# Altium footprint library Titan.PcbLib: 49 footprints (part 3 of 4)
Each footprint in its own frame and in the unit in brackets; x right, y up, seen from the top. Pads: shape width x height; smd on the part's side, far side on the other; paste and mask are expansions set on the pad; w line width, h text height; cw(c..) or ccw(c..) is an arc to the next point about the centre after c.
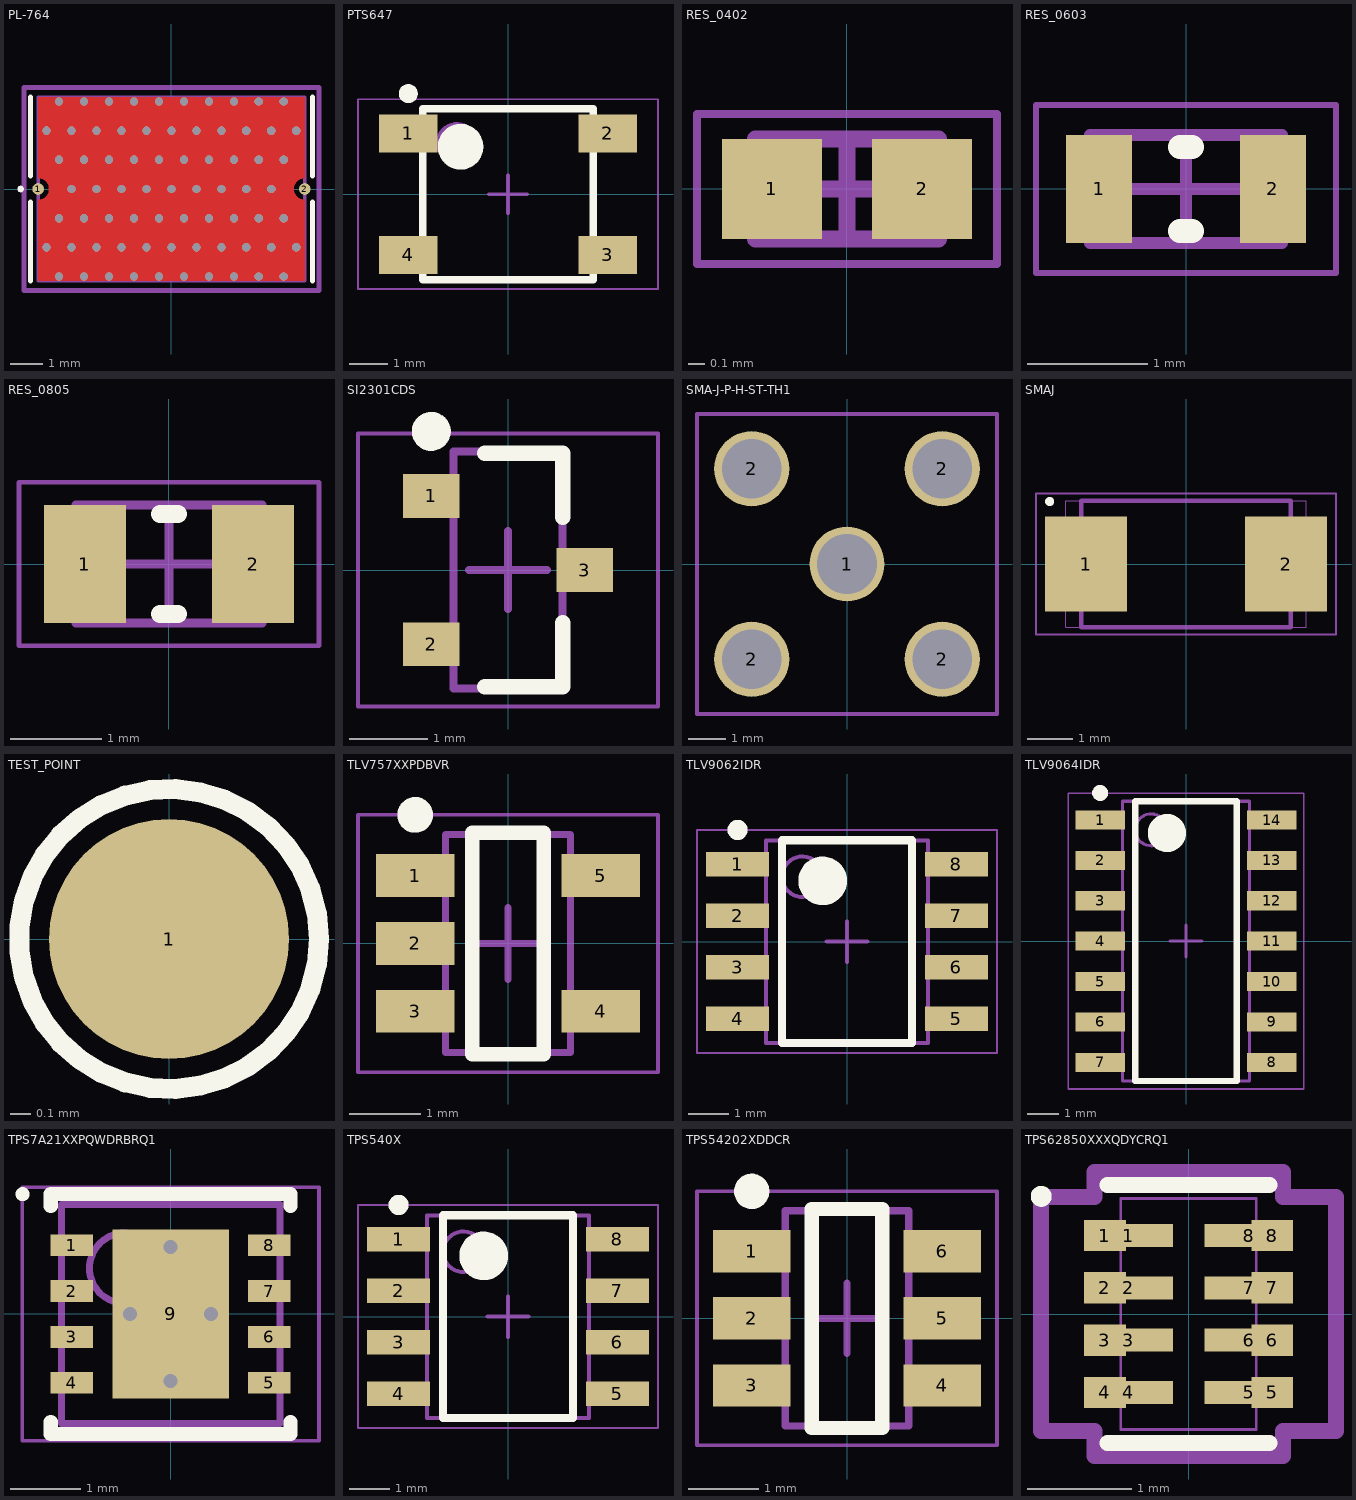
[diagram p2: the footprints below, top view; thin cyan lines are the x and y axes]

## PL-764 [mm]
height 2.03
pads (3):
  round 0.36 smd: 1(-4.065,0) 2(4.065,0)
  round 0.025 smd: 3(0,0)
via -3.048,0 diameter 0.254 hole 0.254
via -2.286,0 diameter 0.254 hole 0.254
via -1.524,0 diameter 0.254 hole 0.254
via -0.762,0 diameter 0.254 hole 0.254
via 0,0 diameter 0.254 hole 0.254
via 0.762,0 diameter 0.254 hole 0.254
via 1.524,0 diameter 0.254 hole 0.254
via 2.286,0 diameter 0.254 hole 0.254
via 3.048,0 diameter 0.254 hole 0.254
via -3.81,1.778 diameter 0.254 hole 0.254
via -3.048,1.778 diameter 0.254 hole 0.254
via -2.286,1.778 diameter 0.254 hole 0.254
via -1.524,1.778 diameter 0.254 hole 0.254
via -0.762,1.778 diameter 0.254 hole 0.254
via 0,1.778 diameter 0.254 hole 0.254
via 0.762,1.778 diameter 0.254 hole 0.254
via 1.524,1.778 diameter 0.254 hole 0.254
via 2.286,1.778 diameter 0.254 hole 0.254
via 3.048,1.778 diameter 0.254 hole 0.254
via 3.81,1.778 diameter 0.254 hole 0.254
via -3.81,-1.778 diameter 0.254 hole 0.254
via -3.048,-1.778 diameter 0.254 hole 0.254
via -2.286,-1.778 diameter 0.254 hole 0.254
via -1.524,-1.778 diameter 0.254 hole 0.254
via -0.762,-1.778 diameter 0.254 hole 0.254
via 0,-1.778 diameter 0.254 hole 0.254
via 0.762,-1.778 diameter 0.254 hole 0.254
via 1.524,-1.778 diameter 0.254 hole 0.254
via 2.286,-1.778 diameter 0.254 hole 0.254
via 3.048,-1.778 diameter 0.254 hole 0.254
via 3.81,-1.778 diameter 0.254 hole 0.254
via -3.429,0.889 diameter 0.254 hole 0.254
via -2.667,0.889 diameter 0.254 hole 0.254
via -1.905,0.889 diameter 0.254 hole 0.254
via -1.143,0.889 diameter 0.254 hole 0.254
via -0.381,0.889 diameter 0.254 hole 0.254
via 0.381,0.889 diameter 0.254 hole 0.254
via 1.143,0.889 diameter 0.254 hole 0.254
via 1.905,0.889 diameter 0.254 hole 0.254
via 2.667,0.889 diameter 0.254 hole 0.254
via 3.429,0.889 diameter 0.254 hole 0.254
via -3.429,2.667 diameter 0.254 hole 0.254
via -2.667,2.667 diameter 0.254 hole 0.254
via -1.905,2.667 diameter 0.254 hole 0.254
via -1.143,2.667 diameter 0.254 hole 0.254
via -0.381,2.667 diameter 0.254 hole 0.254
via 0.381,2.667 diameter 0.254 hole 0.254
via 1.143,2.667 diameter 0.254 hole 0.254
via 1.905,2.667 diameter 0.254 hole 0.254
via 2.667,2.667 diameter 0.254 hole 0.254
via 3.429,2.667 diameter 0.254 hole 0.254
via -3.429,-0.889 diameter 0.254 hole 0.254
via -2.667,-0.889 diameter 0.254 hole 0.254
via -1.905,-0.889 diameter 0.254 hole 0.254
via -1.143,-0.889 diameter 0.254 hole 0.254
via -0.381,-0.889 diameter 0.254 hole 0.254
via 0.381,-0.889 diameter 0.254 hole 0.254
via 1.143,-0.889 diameter 0.254 hole 0.254
via 1.905,-0.889 diameter 0.254 hole 0.254
via 2.667,-0.889 diameter 0.254 hole 0.254
via 3.429,-0.889 diameter 0.254 hole 0.254
via -3.429,-2.667 diameter 0.254 hole 0.254
via -2.667,-2.667 diameter 0.254 hole 0.254
via -1.905,-2.667 diameter 0.254 hole 0.254
via -1.143,-2.667 diameter 0.254 hole 0.254
via -0.381,-2.667 diameter 0.254 hole 0.254
via 0.381,-2.667 diameter 0.254 hole 0.254
via 1.143,-2.667 diameter 0.254 hole 0.254
via 1.905,-2.667 diameter 0.254 hole 0.254
via 2.667,-2.667 diameter 0.254 hole 0.254
via 3.429,-2.667 diameter 0.254 hole 0.254
Top Layer:
  region: -4.065,-2.795 -4.065,-0.33 -4.033,-0.328 -3.969,-0.316 -3.909,-0.291 -3.856,-0.255 -3.81,-0.209 -3.774,-0.156 -3.749,-0.096 -3.737,-0.032 -3.737,0.032 -3.749,0.096 -3.774,0.156 -3.81,0.209 -3.856,0.255 -3.909,0.291 -3.969,0.316 -4.033,0.328 -4.065,0.33 -4.065,2.795 4.065,2.795 4.065,0.33 4.033,0.328 3.969,0.316 3.909,0.291 3.856,0.255 3.81,0.209 3.774,0.156 3.749,0.096 3.737,0.032 3.737,-0.032 3.749,-0.096 3.774,-0.156 3.81,-0.209 3.856,-0.255 3.909,-0.291 3.969,-0.316 4.033,-0.328 4.065,-0.33 4.065,-2.795
Top Overlay:
  circle w0.1: c-4.6,0 r0.05
  lines w0.152: -4.3,-2.8 -4.3,-0.4 ; -4.3,0.4 -4.3,2.8 ; 4.3,-2.8 4.3,-0.4 ; 4.3,0.4 4.3,2.8
Mechanical 1:
  lines w0.1: -4.065,-2.795 4.065,-2.795 ; -4.065,2.795 4.065,2.795
  lines w0.102: -4.065,-2.795 -4.065,2.795 ; 4.065,-2.795 4.065,2.795
Mechanical 15:
  lines w0.152: -4.5,-3.1 -4.5,3.1 4.5,3.1 4.5,-3.1 -4.5,-3.1

## PTS647 [mm] "4.5x4.5mm SMT Tactile Switch"
height 3.8
pads (4):
  rect 1.55x1 smd: 1(-2.625,1.6) 2(2.625,1.6) 3(2.625,-1.6) 4(-2.625,-1.6)
Top Overlay:
  circle w0.25: c-2.625,2.65 r0.125
  circle w0.6: c-1.25,1.25 r0.3
  lines w0.2: -2.25,-2.25 2.25,-2.25 2.25,2.25 -2.25,2.25 -2.25,-2.25
Mechanical 13:
  circle w0.1: c-1.35,1.35 r0.5
  lines w0.1: -2.25,-2.25 -2.25,2.25 2.25,2.25 2.25,-2.25 -2.25,-2.25
Mechanical 15:
  lines w0.05: -3.95,-2.5 -3.95,2.5 3.95,2.5 3.95,-2.5 -3.95,-2.5
  lines w0.1: -0.5,0 0.5,0 ; 0,-0.5 0,0.5
3D body: height 3.8, standoff 0.1, extent -2.25,-2.25 2.25,2.25

## RES_0402 [mm] "Chip Resistor, 2-Leads, Body 1.00x0.50mm, IPC Medium Density"
height 0.6
pads (2):
  rect 0.6x0.6 smd: 1(-0.45,0) 2(0.45,0)
Mechanical 13:
  lines w0.1: -0.55,-0.3 -0.55,0.3 0.55,0.3 0.55,-0.3 -0.55,-0.3
Mechanical 15:
  lines w0.05: -0.9,-0.45 -0.9,0.45 0.9,0.45 0.9,-0.45 -0.9,-0.45
  lines w0.1: -0.3,0 0.3,0 ; 0,-0.3 0,0.3
3D body "Resistor 0402.step": height 0.6, standoff 0, extent -0.55,-0.3 0.55,0.3

## RES_0603 [mm] "Chip Resistor, 2-Leads, Body 1.55x0.85mm, IPC Medium Density"
height 0.5
pads (2):
  rect 0.55x0.9 smd: 1(-0.725,0) 2(0.725,0)
Top Overlay:
  lines w0.2: -0.05,-0.35 0.05,-0.35 ; -0.05,0.35 0.05,0.35
Mechanical 13:
  lines w0.1: -0.8,-0.45 -0.8,0.45 0.8,0.45 0.8,-0.45 -0.8,-0.45
Mechanical 15:
  lines w0.05: -1.25,-0.7 -1.25,0.7 1.25,0.7 1.25,-0.7 -1.25,-0.7
  lines w0.1: -0.45,0 0.45,0 ; 0,-0.45 0,0.45
3D body "RES_0603.step": height 0.5, standoff 0, extent -0.8,-0.45 0.8,0.45

## RES_0805 [mm] "Chip Resistor, 2-Leads, Body 2.00x1.25mm, IPC Medium Density"
height 0.5
pads (2):
  rect 0.9x1.3 smd: 1(-0.925,0) 2(0.925,0)
Top Overlay:
  lines w0.2: -0.1,-0.55 0.1,-0.55 ; -0.1,0.55 0.1,0.55
Mechanical 13:
  lines w0.1: -1.025,-0.65 1.025,-0.65 1.025,0.65 -1.025,0.65 -1.025,-0.65
Mechanical 15:
  lines w0.05: -1.65,-0.9 1.65,-0.9 1.65,0.9 -1.65,0.9 -1.65,-0.9
  lines w0.1: -0.5,0 0.5,0 ; 0,-0.5 0,0.5
3D body "RES_0805.step": height 0.5, standoff 0, extent -1.025,-0.65 1.025,0.65

## SI2301CDS [mm] "SOT23, 3-Leads, Body 2.92x2.37mm, Pitch 0.95mm, IPC Medium Density"
height 1.12
pads (3):
  rect 0.724x0.559 smd: 1(-0.984,0.95) 2(-0.984,-0.95) 3(0.984,0)
Top Overlay:
  circle w0.25: c-0.984,1.78 r0.125
  lines w0.2: -0.3,-1.5 0.7,-1.5 0.7,-0.679 ; -0.3,1.5 0.7,1.5 0.7,0.68
Mechanical 13:
  lines w0.1: -0.7,-1.52 -0.7,1.52 0.7,1.52 0.7,-1.52 -0.7,-1.52
Mechanical 15:
  lines w0.05: -1.925,-1.75 -1.925,1.75 1.925,1.75 1.925,-1.75 -1.925,-1.75
  lines w0.1: -0.5,0 0.5,0 ; 0,-0.5 0,0.5
3D body "Si2301CDS.step": height 1.12, standoff 0, extent -1.32,-1.52 1.32,1.52

## SMA-J-P-H-ST-TH1 [mm] "Connector RF SMA Vertical"
pads (5):
  round 2 hole 1.6: 1(0,0) 2(-2.54,-2.54) 2(-2.54,2.54) 2(2.54,-2.54) 2(2.54,2.54)
Mechanical 13:
  lines w0.1: -4,-4 -4,4 4,4 4,-4 -4,-4
Mechanical 15:
  lines w0.05: -4,-4 -4,4 4,4 4,-4 -4,-4
3D body "SMA_Vertical.step": height 9.99, standoff -3.81, extent -3.175,-3.175 3.175,3.175

## SMAJ [mm] "TVS Diode Surface Mount DO-214AC"
height 2.29
pads (2):
  rect 1.8x2.1 smd: 1(-2.2,0) 2(2.2,0)
Top Overlay:
  circle w0.1: c-3,1.375 r0.05
Mechanical 13:
  lines w0.025: -2.642,-1.397 -2.642,1.397 2.642,1.397 2.642,-1.397 -2.642,-1.397
  lines w0.1: -2.3,-1.395 2.3,-1.395 2.3,1.395 -2.3,1.395 -2.3,-1.395
Mechanical 15:
  lines w0.05: -3.3,-1.55 -3.3,1.55 3.3,1.55 3.3,-1.55 -3.3,-1.55
3D body "SMASeries_LTF.step": height 2.34, standoff 0, extent -2.642,-1.397 2.642,1.397

## TEST_POINT [mm] "Test Point Pad"
pads (1):
  round 1.2 smd paste-0.6: 1(0,0)
Top Overlay:
  circle w0.1: c0,0 r0.75
3D body: height 0.03, standoff 0, extent -0.6,-0.6 0.6,0.6

## TLV757XXPDBVR [mm] "SOT23, 5-Leads, Body 2.90x2.80mm, Pitch 0.95mm, IPC Medium Density"
height 1.45
pads (5):
  rect 1.1x0.6 smd: 1(-1.3,0.95) 2(-1.3,0) 3(-1.3,-0.95) 4(1.3,-0.95) 5(1.3,0.95)
Top Overlay:
  circle w0.25: c-1.3,1.8 r0.125
  lines w0.2: -0.5,-1.55 0.5,-1.55 0.5,1.55 -0.5,1.55 -0.5,-1.55
Mechanical 13:
  lines w0.1: -0.875,-1.525 -0.875,1.525 0.875,1.525 0.875,-1.525 -0.875,-1.525
Mechanical 15:
  lines w0.05: -2.1,-1.8 -2.1,1.8 2.1,1.8 2.1,-1.8 -2.1,-1.8
  lines w0.1: -0.5,0 0.5,0 ; 0,-0.5 0,0.5
3D body "TLV757XXPDBVR1.step": height 1.45, standoff 0, extent -1.5,-1.525 1.5,1.525

## TLV9062IDR [mm] "SOIC, 8-Leads, Body 4.90x3.90mm, Pitch 1.27mm, IPC Medium Density"
height 1.75
pads (8):
  rect 1.55x0.6 smd: 1(-2.7,1.905) 2(-2.7,0.635) 3(-2.7,-0.635) 4(-2.7,-1.905) 5(2.7,-1.905) 6(2.7,-0.635) 7(2.7,0.635) 8(2.7,1.905)
Top Overlay:
  circle w0.6: c-0.6,1.5 r0.3
  circle w0.25: c-2.7,2.755 r0.125
  lines w0.2: -1.6,-2.5 1.6,-2.5 1.6,2.5 -1.6,2.5 -1.6,-2.5
Mechanical 13:
  circle w0.1: c-1.1,1.6 r0.5
  lines w0.1: -2,-2.5 2,-2.5 2,2.5 -2,2.5 -2,-2.5
Mechanical 15:
  lines w0.05: -3.7,-2.75 3.7,-2.75 3.7,2.75 -3.7,2.75 -3.7,-2.75
  lines w0.1: -0.5,0 0.5,0 ; 0,-0.5 0,0.5
3D body "TLV9062IDR.step": height 1.75, standoff 0, extent -3,-2.5 3,2.5

## TLV9064IDR [mm] "SOIC, 14-Leads, Body 8.65x3.90mm, Pitch 1.27mm, IPC Medium Density"
height 1.75
pads (14):
  rect 1.55x0.6 smd: 1(-2.7,3.81) 2(-2.7,2.54) 3(-2.7,1.27) 4(-2.7,0) 5(-2.7,-1.27) 6(-2.7,-2.54) 7(-2.7,-3.81) 8(2.7,-3.81) 9(2.7,-2.54) 10(2.7,-1.27) 11(2.7,0) 12(2.7,1.27) 13(2.7,2.54) 14(2.7,3.81)
Top Overlay:
  circle w0.25: c-2.7,4.66 r0.125
  circle w0.6: c-0.6,3.4 r0.3
  lines w0.2: -1.6,-4.4 -1.6,4.4 1.6,4.4 1.6,-4.4 -1.6,-4.4
Mechanical 13:
  circle w0.1: c-1.1,3.5 r0.5
  lines w0.1: -2,-4.4 -2,4.4 2,4.4 2,-4.4 -2,-4.4
Mechanical 15:
  lines w0.05: -3.7,-4.65 -3.7,4.65 3.7,4.65 3.7,-4.65 -3.7,-4.65
  lines w0.1: -0.5,0 0.5,0 ; 0,-0.5 0,0.5
3D body "TLV9064IDR.step": height 1.75, standoff 0, extent -3,-4.4 3,4.4

## TPS7A21XXPQWDRBRQ1 [mm] "SON, 8-Leads, Body 3.00x3.00mm, Pitch 0.65mm, Thermal Pad 0.00x0.00mm, IPC Medium Density"
height 1
pads (9):
  rect 0.6x0.31 smd mask+0.07: 1(-1.4,0.975) 2(-1.4,0.325) 3(-1.4,-0.325) 4(-1.4,-0.975) 5(1.4,-0.975) 6(1.4,-0.325) 7(1.4,0.325) 8(1.4,0.975)
  rect 1.65x2.4 smd paste-2539.97 mask+0.07: 9(0,0)
via 0,-0.95 diameter 0.2 hole 0.2
via 0,0.95 diameter 0.2 hole 0.2
via 0.575,0 diameter 0.2 hole 0.2
via -0.575,0 diameter 0.2 hole 0.2
Top Overlay:
  circle w0.1: c-2.1,1.7 r0.05
  lines w0.2: -1.7,-1.53 -1.7,-1.7 1.7,-1.7 1.7,-1.53 ; -1.7,1.53 -1.7,1.7 1.7,1.7 1.7,1.53
Top Paste:
  rectangle: -0.755,0.1 0.755,1.16
  rectangle: -0.755,-1.16 0.755,-0.1
Mechanical 13:
  circle w0.1: c-0.65,0.65 r0.5
  lines w0.1: -1.55,-1.55 -1.55,1.55 1.55,1.55 1.55,-1.55 -1.55,-1.55
Mechanical 15:
  lines w0.05: -2.105,-1.8 -2.105,1.8 2.105,1.8 2.105,-1.8 -2.105,-1.8
  lines w0.1: -0.5,0 0.5,0 ; 0,-0.5 0,0.5
3D body "TPS7A21-Q1.step": height 1, standoff 0, extent -1.6,-1.55 1.6,1.55

## TPS540X [mm] "SOIC, 8-Leads, Body 4.91x3.90mm, Pitch 1.27mm, IPC Medium Density"
height 1.75
pads (8):
  rect 1.55x0.6 smd: 1(-2.7,1.905) 2(-2.7,0.635) 3(-2.7,-0.635) 4(-2.7,-1.905) 5(2.7,-1.905) 6(2.7,-0.635) 7(2.7,0.635) 8(2.7,1.905)
Top Overlay:
  circle w0.6: c-0.6,1.5 r0.3
  circle w0.25: c-2.7,2.755 r0.125
  lines w0.2: -1.6,-2.5 1.6,-2.5 1.6,2.5 -1.6,2.5 -1.6,-2.5
Mechanical 13:
  circle w0.1: c-1.1,1.6 r0.5
  lines w0.1: -2,-2.5 2,-2.5 2,2.5 -2,2.5 -2,-2.5
Mechanical 15:
  lines w0.05: -3.7,-2.75 3.7,-2.75 3.7,2.75 -3.7,2.75 -3.7,-2.75
  lines w0.1: -0.5,0 0.5,0 ; 0,-0.5 0,0.5
3D body "TPS540X.step": height 1.75, standoff 0, extent -2.997,-2.5 2.997,2.5

## TPS54202XDDCR [mm] "SOT23-THIN, 6-Leads, Body 2.90x2.80mm, Pitch 0.95mm, IPC Medium Density"
height 1.1
pads (6):
  rect 1.1x0.6 smd: 1(-1.35,0.95) 2(-1.35,0) 3(-1.35,-0.95) 4(1.35,-0.95) 5(1.35,0) 6(1.35,0.95)
Top Overlay:
  circle w0.25: c-1.35,1.8 r0.125
  lines w0.2: -0.5,-1.55 -0.5,1.55 0.5,1.55 0.5,-1.55 -0.5,-1.55
Mechanical 13:
  lines w0.1: -0.875,-1.525 0.875,-1.525 0.875,1.525 -0.875,1.525 -0.875,-1.525
Mechanical 15:
  lines w0.05: -2.125,-1.8 2.125,-1.8 2.125,1.8 -2.125,1.8 -2.125,-1.8
  lines w0.1: -0.5,0 0.5,0 ; 0,-0.5 0,0.5
3D body "TPS54202XDDCR.step": height 1.1, standoff 0, extent -1.525,-1.525 1.525,1.525

## TPS62850XXXQDYCRQ1 [mm] "SOT583"
pads (16):
  rect 0.4x0.3 smd: 1(-0.8,0.75) 2(-0.8,0.25) 3(-0.8,-0.25) 4(-0.8,-0.75) 5(0.8,-0.75) 6(0.8,-0.25) 7(0.8,0.25) 8(0.8,0.75)
  rect 0.85x0.22 smd: 1(-0.575,0.75) 2(-0.575,0.25) 3(-0.575,-0.25) 4(-0.575,-0.75) 5(0.575,-0.75) 6(0.575,-0.25) 7(0.575,0.25) 8(0.575,0.75)
Top Overlay:
  circle w0.1: c-1.409,1.125 r0.05
  lines w0.152: -0.775,-1.232 0.775,-1.232 ; -0.775,1.232 0.775,1.232
Mechanical 13:
  lines w0.025: -0.648,-1.105 0.648,-1.105 0.648,1.105 -0.648,1.105 -0.648,-1.105
Mechanical 15:
  lines w0.152: -1.41,-1.118 -1.41,1.118 -0.902,1.118 -0.902,1.359 0.902,1.359 0.902,1.118 1.41,1.118 1.41,-1.118 0.902,-1.118 0.902,-1.359 -0.902,-1.359 -0.902,-1.118 -1.41,-1.118
3D body "SOT-5X3-8_DYC_TEX.step": height 0.61, standoff 0, extent -0.851,-1.105 0.851,1.105